# Altium footprint library SL2.1A.PcbLib: 1 footprints
Each footprint in its own frame and in the unit in brackets; x right, y up, seen from the top. Pads: shape width x height; smd on the part's side, far side on the other; paste and mask are expansions set on the pad; w line width, h text height; cw(c..) or ccw(c..) is an arc to the next point about the centre after c.
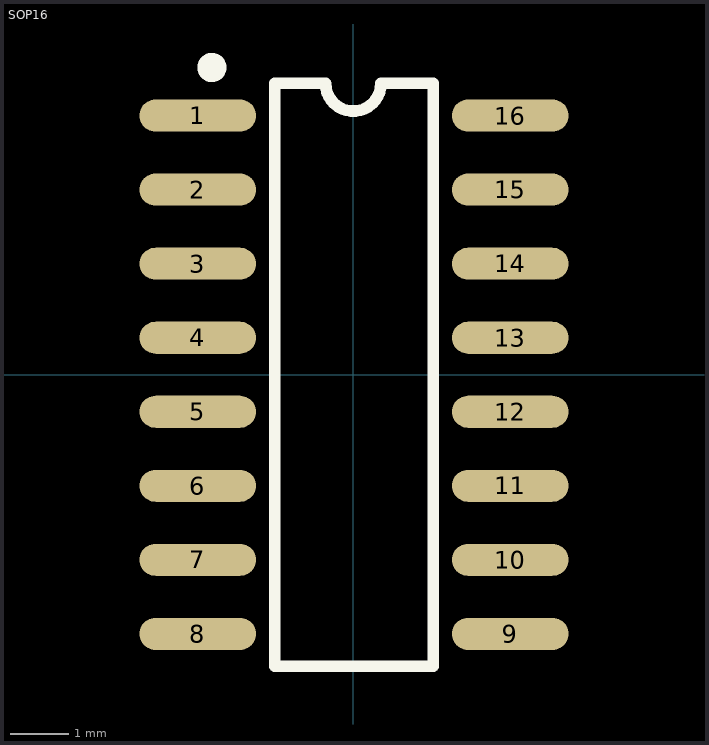
[diagram p0: the footprint, top view; thin cyan lines are the x and y axes]

## SOP16 [mm] "封装库来自淘宝卖家 ID：黄晶宝石"
height 1.75
pads (16):
  oval 2x0.55 smd: 1(-2.667,4.445) 2(-2.667,3.175) 3(-2.667,1.905) 4(-2.667,0.635) 5(-2.667,-0.635) 6(-2.667,-1.905) 7(-2.667,-3.175) 8(-2.667,-4.445) 9(2.692,-4.445) 10(2.692,-3.175) 11(2.692,-1.905) 12(2.692,-0.635) 13(2.692,0.635) 14(2.692,1.905) 15(2.692,3.175) 16(2.692,4.445)
Top Overlay:
  circle w0.25: c-2.425,5.27 r0.125
  lines w0.2: -0.483,5 -1.346,5 -1.346,-5 1.372,-5 1.372,5 0.475,5 ; -0.475,4.997 ccw(c0,4.996) 0.475,4.997
3D body "SO-16.STEP": height 1.45, standoff 0, extent -2.921,-4.991 2.984,4.991